# Altium footprint library Littlefuse.PcbLib: 1 footprints
Each footprint in its own frame and in the unit in brackets; x right, y up, seen from the top. Pads: shape width x height; smd on the part's side, far side on the other; paste and mask are expansions set on the pad; w line width, h text height; cw(c..) or ccw(c..) is an arc to the next point about the centre after c.
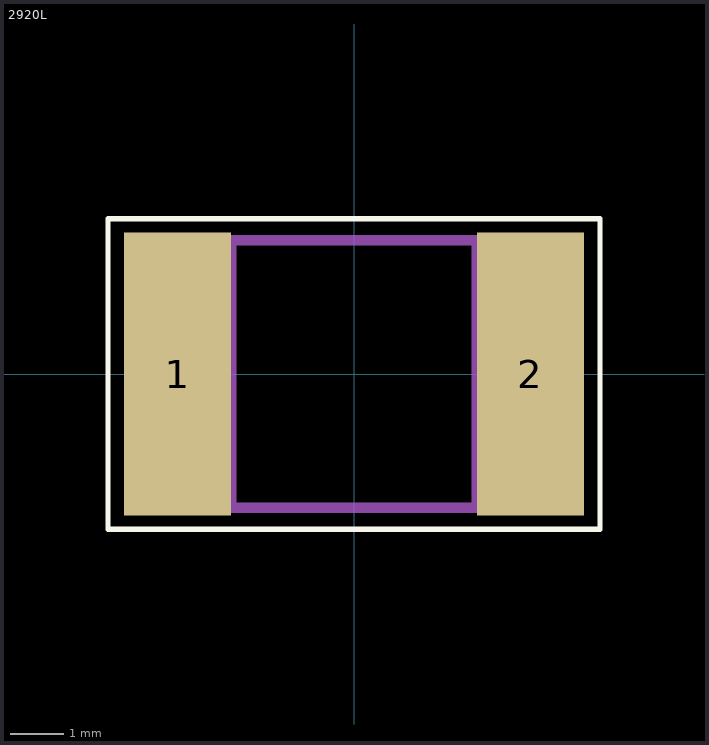
[diagram p0: the footprint, top view; thin cyan lines are the x and y axes]

## 2920L [mm]
pads (2):
  rect 2x5.3 smd: 1(-3.3,0) 2(3.3,0)
Top Overlay:
  lines w0.1: -4.6,-2.9 4.6,-2.9 4.6,2.9 -4.6,2.9 -4.6,-2.9
Mechanical 13:
  rectangle: -3.7,-2.5 -2.2,2.5
  region: 3.7,2.5 2.2,2.5 2.2,-2.5 3.7,-2.5
  lines w0.2: -3.7,-2.5 3.7,-2.5 3.7,2.5 -3.7,2.5 -3.7,-2.5
Mechanical 15:
  lines w0.05: -4.6,-2.9 4.6,-2.9 4.6,2.9 -4.6,2.9 -4.6,-2.9
  text ".Designator" at -4.4,-0.4 h2
3D body "User Library-FUSE-2920.step": height 1, standoff 0, extent -3.85,-2.65 3.85,2.65